# EAGLE library part 7810-0000PR (library 3M_By_element14_Batch_1)
Header
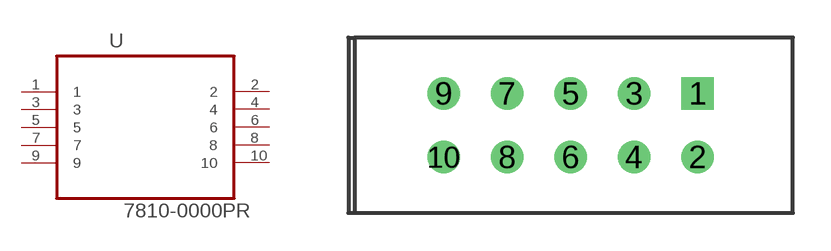
[diagram p56: symbol with the pads of 3M_7810-0000PR; footprint 3M_7810-0000PR]

Designator prefix U

## 7810-0000PR (MPN: 7810-0000PR; OC_FARNELL: 9138714; OC_NEWARK: 84K8125; PACKAGE: Header-10Pin; SUPPLIER: 3M)  [3M_7810-0000PR]
1  1  pas
2  2  pas
3  3  pas
4  4  pas
5  5  pas
6  6  pas
7  7  pas
8  8  pas
9  9  pas
10  10  pas

## Footprint 3M_7810-0000PR (pad centres in mm)
drill 0.787 square: 1 0,2.54
drill 0.787: 2 0,0; 3 -2.54,2.54; 4 -2.54,0; 5 -5.08,2.54; 6 -5.08,0; 7 -7.62,2.54; 8 -7.62,0; 9 -10.16,2.54; 10 -10.16,0